# Altium footprint library Jumpers.pcblib: 20 footprints (part 1 of 2)
Each footprint in its own frame and in the unit in brackets; x right, y up, seen from the top. Pads: shape width x height; smd on the part's side, far side on the other; paste and mask are expansions set on the pad; w line width, h text height; cw(c..) or ccw(c..) is an arc to the next point about the centre after c.
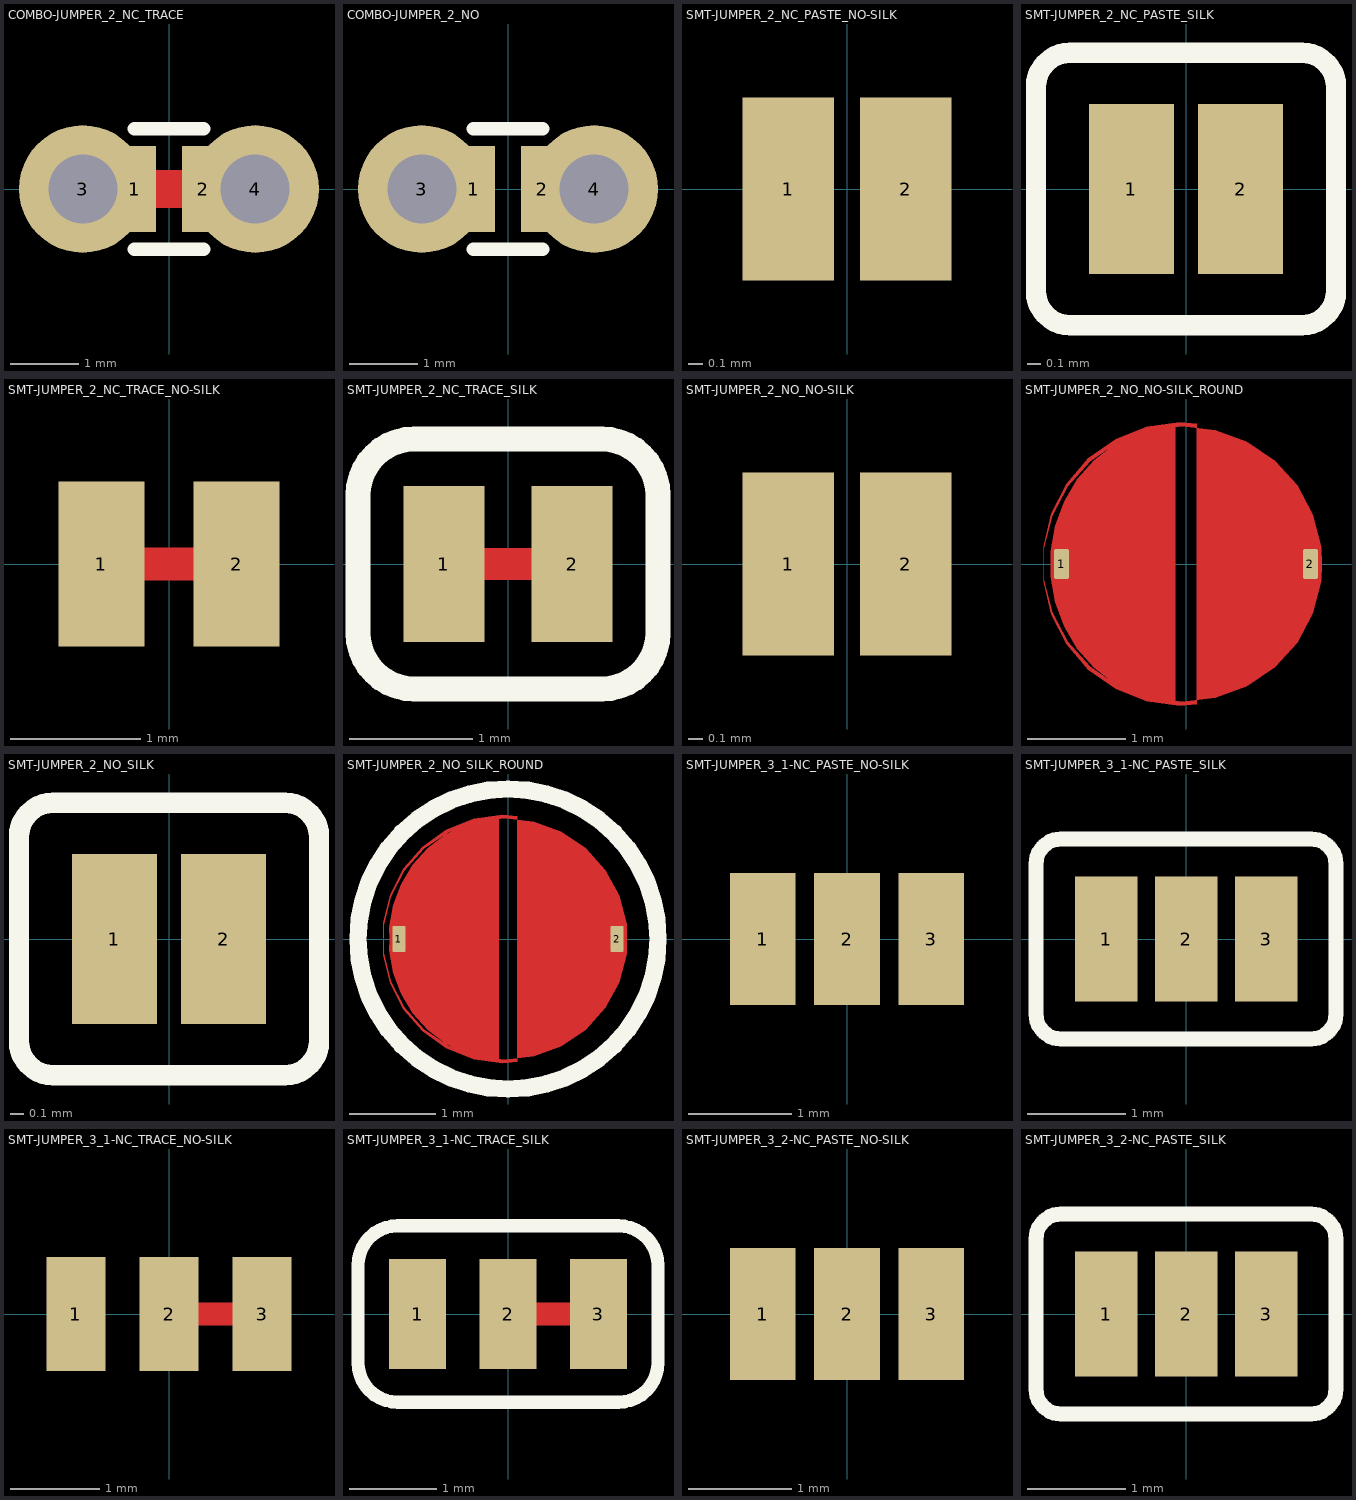
[diagram p0: the footprints below, top view; thin cyan lines are the x and y axes]

## COMBO-JUMPER_2_NC_TRACE [mil]
pads (4):
  rect 25x50 smd paste+0: 1(-20,0) 2(20,0)
  round 74 hole 40: 3(-50,0) 4(50,0)
Top:
  region: -27.5,11 1,11 1,-11 -27.5,-11
  region: -1,11 27.5,11 27.5,-11 -1,-11
Top Overlay:
  lines w8: -20,-35 20,-35 ; -20,35 20,35
Top Solder:
  region: -7.5,26 7.5,26 7.5,-26 -7.5,-26

## COMBO-JUMPER_2_NO [mil]
pads (4):
  rect 25x50 smd paste+0: 1(-20,0) 2(20,0)
  round 74 hole 40: 3(-50,0) 4(50,0)
Top Overlay:
  lines w8: -20,-35 20,-35 ; -20,35 20,35
Top Solder:
  region: -7.5,26 7.5,26 7.5,-26 -7.5,-26

## SMT-JUMPER_2_NC_PASTE_NO-SILK [mil]
pads (2):
  rect 25x50 smd paste+0: 1(-16,0) 2(16,0)

## SMT-JUMPER_2_NC_PASTE_SILK [mil]
pads (2):
  rect 25x50 smd paste+0: 1(-16,0) 2(16,0)
Top Overlay:
  lines w6: -44,-30 ccw(c-34,-30) -34,-40 34,-40 ccw(c34,-30) 44,-30 44,30 ccw(c34,30) 34,40 -34,40 ccw(c-34,30) -44,30 -44,-30

## SMT-JUMPER_2_NC_TRACE_NO-SILK [mil]
pads (2):
  rect 26x50 smd paste+0: 1(-20.5,0) 2(20.5,0)
Top:
  region: -27.5,5 1,5 1,-5 -27.5,-5
  region: -1,5 27.5,5 27.5,-5 -1,-5
Top Solder:
  region: -7.5,5 7.5,5 7.5,-5 -7.5,-5

## SMT-JUMPER_2_NC_TRACE_SILK [mil]
pads (2):
  rect 26x50 smd paste+0: 1(-20.5,0) 2(20.5,0)
Top:
  region: -27.5,5 1,5 1,-5 -27.5,-5
  region: -1,5 27.5,5 27.5,-5 -1,-5
Top Overlay:
  lines w8: -48,-22 ccw(c-30,-22) -30,-40 30,-40 ccw(c30,-22) 48,-22 48,22 ccw(c30,22) 30,40 -30,40 ccw(c-30,22) -48,22 -48,-22
Top Solder:
  region: -7.5,5 7.5,5 7.5,-5 -7.5,-5

## SMT-JUMPER_2_NO_NO-SILK [mil]
pads (2):
  rect 25x50 smd paste+0: 1(-16,0) 2(16,0)

## SMT-JUMPER_2_NO_NO-SILK_ROUND [mil]
pads (2):
  rrect20% 6x12 smd paste+0 mask+0: 1(-50,0) 2(50,0)
Top:
  region: 4.28,-56.36 -2.41,-57.03 -15.73,-55.16 -28.22,-50.18 -39.18,-42.38 -47.96,-32.19 -54.07,-20.21 -57.16,-7.12 -57.06,6.33 -53.76,19.37 -47.45,31.25 -38.51,41.29 -27.43,48.92 -14.86,53.7 -1.51,55.36 11.85,53.8 24.45,49.11 35.58,41.56 44.6,31.58 50.99,19.74 54.38,6.72 54.48,0 54.38,-6.72 50.99,-19.74 44.6,-31.58 35.58,-41.56 24.45,-49.11 11.85,-53.8 -1.51,-55.36 -14.86,-53.7 -27.43,-48.92 -38.51,-41.29 -47.45,-31.25 -53.76,-19.37 -57.06,-6.33 -57.16,7.12 -54.07,20.21 -47.96,32.19 -39.18,42.38 -28.22,50.18 -15.73,55.16 -2.41,57.03 4.28,56.36
  region: -4.28,56.16 -4.28,-56.16 -9.43,-55.64 -19.36,-52.71 -28.58,-48.01 -36.77,-41.68 -43.65,-33.95 -48.99,-25.08 -52.6,-15.38 -54.36,-5.18 -54.28,0 -54.36,5.18 -52.6,15.38 -48.99,25.08 -43.65,33.95 -36.77,41.68 -28.58,48.01 -19.36,52.71 -9.43,55.64
Top Solder:
  region: 0,60.25 5.93,60.25 17.57,57.93 28.54,53.39 38.41,46.8 46.8,38.41 53.39,28.54 57.93,17.57 60.25,5.93 60.25,0 60.25,-5.93 57.93,-17.57 53.39,-28.54 46.8,-38.41 38.41,-46.8 28.54,-53.39 17.57,-57.93 5.93,-60.25 0,-60.25 -5.93,-60.25 -17.57,-57.93 -28.54,-53.39 -38.41,-46.8 -46.8,-38.41 -53.39,-28.54 -57.93,-17.57 -60.25,-5.93 -60.25,0 -60.25,5.93 -57.93,17.57 -53.39,28.54 -46.8,38.41 -38.41,46.8 -28.54,53.39 -17.57,57.93 -5.93,60.25

## SMT-JUMPER_2_NO_SILK [mil]
pads (2):
  rect 25x50 smd paste+0: 1(-16,0) 2(16,0)
Top Overlay:
  lines w6: -44,-30 ccw(c-34,-30) -34,-40 34,-40 ccw(c34,-30) 44,-30 44,30 ccw(c34,30) 34,40 -34,40 ccw(c-34,30) -44,30 -44,-30

## SMT-JUMPER_2_NO_SILK_ROUND [mil]
pads (2):
  rrect20% 6x12 smd paste+0 mask+0: 1(-50,0) 2(50,0)
Top:
  region: 4.28,-56.36 -2.41,-57.03 -15.73,-55.16 -28.22,-50.18 -39.18,-42.38 -47.96,-32.19 -54.07,-20.21 -57.16,-7.12 -57.06,6.33 -53.76,19.37 -47.45,31.25 -38.51,41.29 -27.43,48.92 -14.86,53.7 -1.51,55.36 11.85,53.8 24.45,49.11 35.58,41.56 44.6,31.58 50.99,19.74 54.38,6.72 54.48,0 54.38,-6.72 50.99,-19.74 44.6,-31.58 35.58,-41.56 24.45,-49.11 11.85,-53.8 -1.51,-55.36 -14.86,-53.7 -27.43,-48.92 -38.51,-41.29 -47.45,-31.25 -53.76,-19.37 -57.06,-6.33 -57.16,7.12 -54.07,20.21 -47.96,32.19 -39.18,42.38 -28.22,50.18 -15.73,55.16 -2.41,57.03 4.28,56.36
  region: -4.28,56.16 -4.28,-56.16 -9.43,-55.64 -19.36,-52.71 -28.58,-48.01 -36.77,-41.68 -43.65,-33.95 -48.99,-25.08 -52.6,-15.38 -54.36,-5.18 -54.28,0 -54.36,5.18 -52.6,15.38 -48.99,25.08 -43.65,33.95 -36.77,41.68 -28.58,48.01 -19.36,52.71 -9.43,55.64
Top Overlay:
  circle w8: c0,0 r68.75
Top Solder:
  region: 0,60.25 5.93,60.25 17.57,57.93 28.54,53.39 38.41,46.8 46.8,38.41 53.39,28.54 57.93,17.57 60.25,5.93 60.25,0 60.25,-5.93 57.93,-17.57 53.39,-28.54 46.8,-38.41 38.41,-46.8 28.54,-53.39 17.57,-57.93 5.93,-60.25 0,-60.25 -5.93,-60.25 -17.57,-57.93 -28.54,-53.39 -38.41,-46.8 -46.8,-38.41 -53.39,-28.54 -57.93,-17.57 -60.25,-5.93 -60.25,0 -60.25,5.93 -57.93,17.57 -53.39,28.54 -46.8,38.41 -38.41,46.8 -28.54,53.39 -17.57,57.93 -5.93,60.25

## SMT-JUMPER_3_1-NC_PASTE_NO-SILK [mil]
pads (3):
  rect 25x50 smd paste+0: 1(-32,0) 2(0,0) 3(32,0)

## SMT-JUMPER_3_1-NC_PASTE_SILK [mil]
pads (3):
  rect 25x50 smd paste+0: 1(-32,0) 2(0,0) 3(32,0)
Top Overlay:
  lines w6: -60,-30 ccw(c-50,-30) -50,-40 50,-40 ccw(c50,-30) 60,-30 60,30 ccw(c50,30) 50,40 -50,40 ccw(c-50,30) -60,30 -60,-30

## SMT-JUMPER_3_1-NC_TRACE_NO-SILK [mil]
pads (3):
  rect 26x50 smd paste+0: 1(-41,0) 2(0,0) 3(41,0)
Top:
  region: -7.5,5 21,5 21,-5 -7.5,-5
  region: 20,5 48.5,5 48.5,-5 20,-5
Top Solder:
  region: 12.5,5 27.5,5 27.5,-5 12.5,-5

## SMT-JUMPER_3_1-NC_TRACE_SILK [mil]
pads (3):
  rect 26x50 smd paste+0: 1(-41,0) 2(0,0) 3(41,0)
Top:
  region: -7.5,5 21,5 21,-5 -7.5,-5
  region: 20,5 48.5,5 48.5,-5 20,-5
Top Overlay:
  lines w6: -68,-22 ccw(c-50,-22) -50,-40 50,-40 ccw(c50,-22) 68,-22 68,22 ccw(c50,22) 50,40 -50,40 ccw(c-50,22) -68,22 -68,-22
Top Solder:
  region: 12.5,5 27.5,5 27.5,-5 12.5,-5

## SMT-JUMPER_3_2-NC_PASTE_NO-SILK [mil]
pads (3):
  rect 25x50 smd paste+0: 1(-32,0) 2(0,0) 3(32,0)

## SMT-JUMPER_3_2-NC_PASTE_SILK [mil]
pads (3):
  rect 25x50 smd paste+0: 1(-32,0) 2(0,0) 3(32,0)
Top Overlay:
  lines w6: -60,-30 ccw(c-50,-30) -50,-40 50,-40 ccw(c50,-30) 60,-30 60,30 ccw(c50,30) 50,40 -50,40 ccw(c-50,30) -60,30 -60,-30